# EAGLE library part SD_CARD_SOCKET (library SteveMarple)
SD/MMC Socket Media socket for SD and MMC cards. Push-push type. Schematic element and footprint production proven. Spark Fun Electronics SKU : PRT-00136
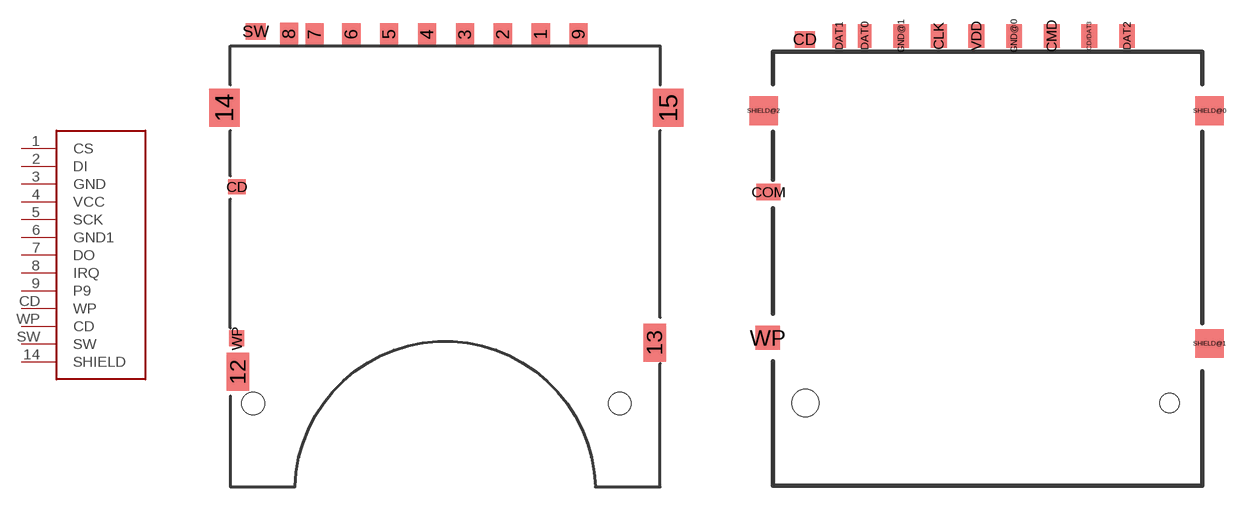
[diagram p5: symbol with the pads of SD-MMC_SOCKET-PP; footprints SD-MMC_SOCKET-PP, SD-SOCKET-4UCON-19607]

Designator prefix -

## SD_CARD_SOCKETSD  [SD-MMC_SOCKET-PP]
1  CS
2  DI
3  GND
4  VCC
5  SCK
6  GND1
7  DO
8  IRQ
9  P9
14  SHIELD
CD  WP
SW  SW
WP  CD

## SD_CARD_SOCKET4UCON-19607  [SD-SOCKET-4UCON-19607]
CD  CD
CD/DAT3  CS
CLK  SCK
CMD  DI
COM  SW
DAT0  DO
DAT1  IRQ
DAT2  P9
GND@0  GND
GND@1  GND1
SHIELD@0  SHIELD
VDD  VCC
WP  WP

## Footprint SD-MMC_SOCKET-PP (pad centres in mm)
smd 1.2 x 1.5: 1 6.88,29.85; 2 4.38,29.85; 3 1.88,29.85; 4 -0.62,29.85; 5 -3.12,29.85; 6 -5.62,29.85; 7 -8.04,29.85; 8 -9.728,29.87; 9 9.38,29.85
smd 1.5 x 2.5: 12 -13.1,7.6; 13 14.402,9.525
smd 2 x 2.5: 14 -14,25; 15 15.3,25
smd 1.15 x 1: CD -13.18,19.8
smd 1.3 x 1.1: SW -11.938,30.048
smd 1 x 1.05: WP -13.18,9.8
hole 1.5 at -12.1,5.5
hole 1.5 at 12.1,5.5

## Footprint SD-SOCKET-4UCON-19607 (pad centres in mm)
smd 1.35 x 1.1: CD -12.13,29.64
smd 1.05 x 1.56: CD/DAT3 6.77,29.87; CLK -3.23,29.87; CMD 4.27,29.87; DAT2 9.27,29.87; GND@0 1.77,29.87; GND@1 -5.73,29.87; VDD -0.73,29.87
smd 1.6 x 1.1: COM -14.55,19.5
smd 0.9 x 1.56: DAT0 -8.15,29.87; DAT1 -9.85,29.87
smd 1.9 x 1.9: SHIELD@0 14.75,24.9; SHIELD@1 14.75,9.45; SHIELD@2 -14.87,24.9
smd 1.6 x 1.6: WP -14.6,9.83
hole 1.8 at -12.1,5.5
hole 1.3 at 12.1,5.5